# Altium footprint library Misc.PCBLIB: 58 footprints (part 1 of 4)
Each footprint in its own frame and in the unit in brackets; x right, y up, seen from the top. Pads: shape width x height; smd on the part's side, far side on the other; paste and mask are expansions set on the pad; w line width, h text height; cw(c..) or ccw(c..) is an arc to the next point about the centre after c.
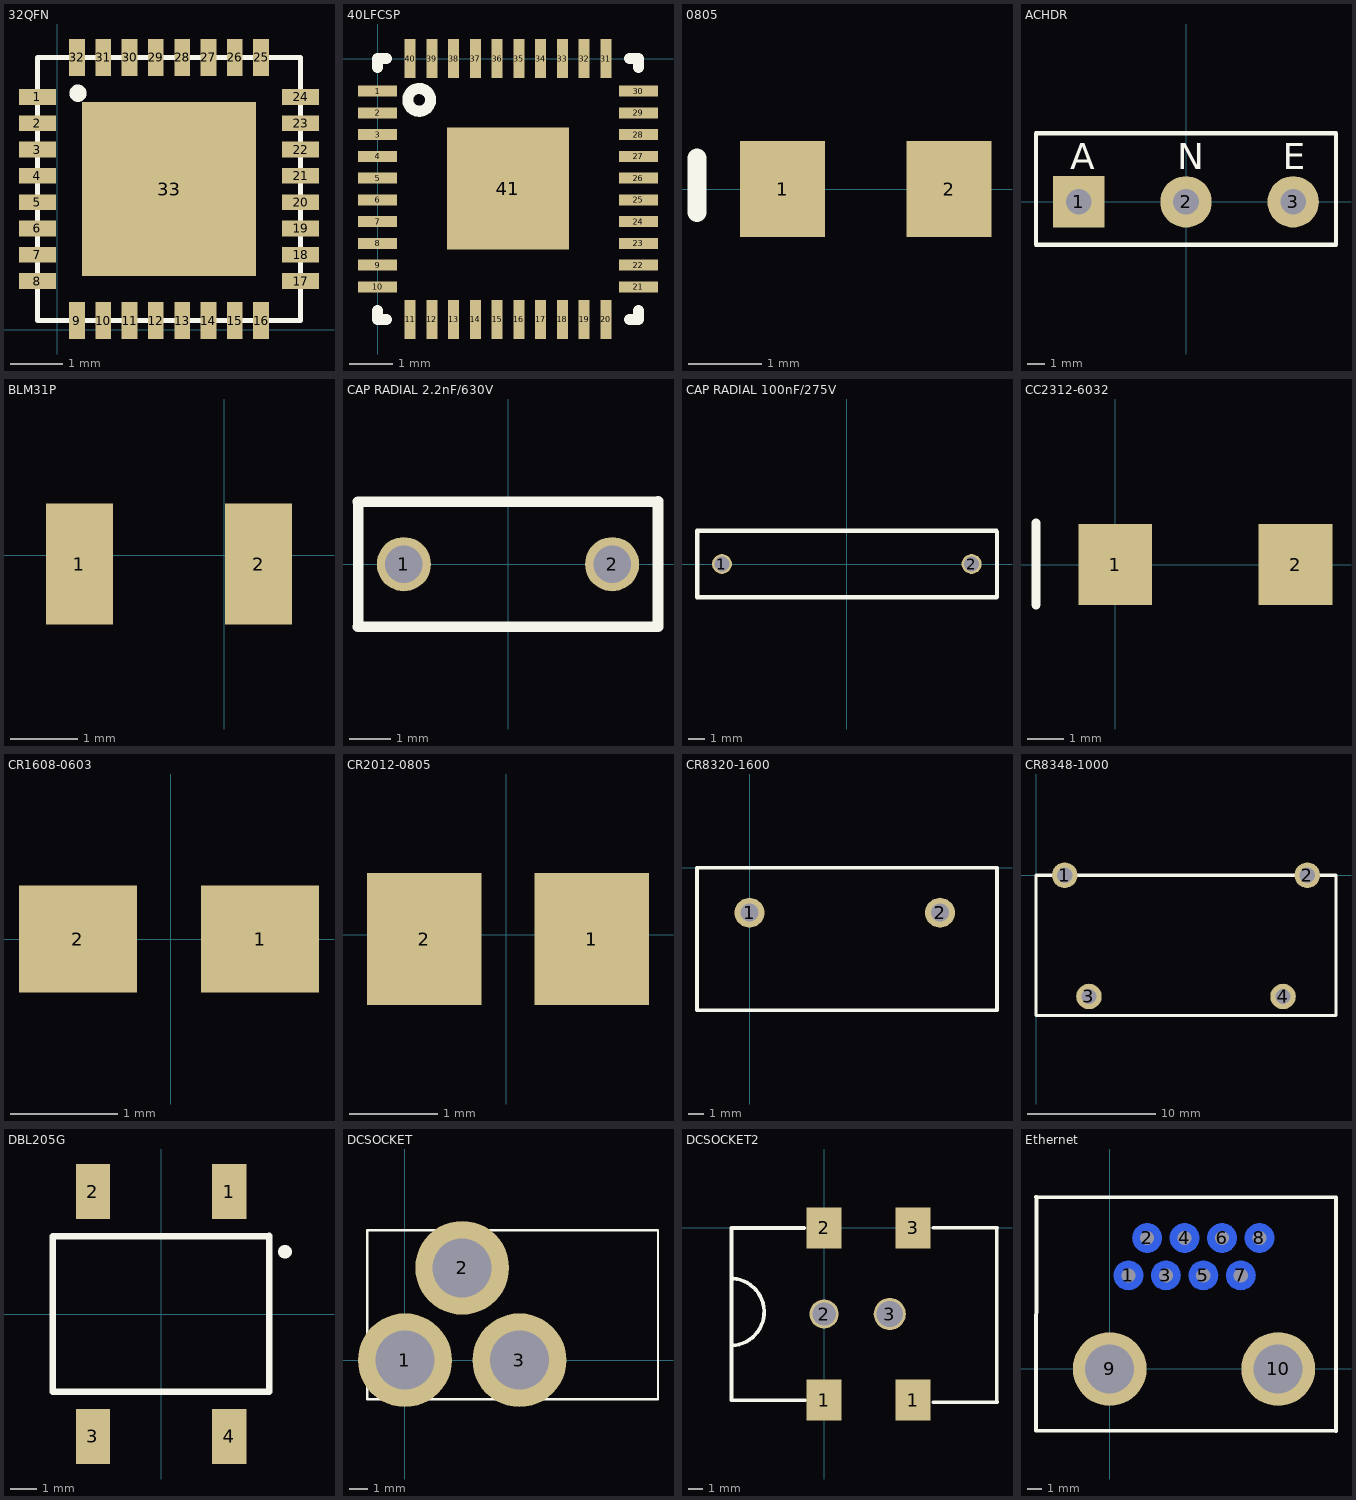
[diagram p0: the footprints below, top view; thin cyan lines are the x and y axes]

## 32QFN [mm]
pads (33):
  rect 0.7x0.3 smd: 1(-0.38,4.42) 2(-0.38,3.92) 3(-0.38,3.42) 4(-0.38,2.92) 5(-0.38,2.42) 6(-0.38,1.92) 7(-0.38,1.42) 8(-0.38,0.92) 17(4.62,0.92) 18(4.62,1.42) 19(4.62,1.92) 20(4.62,2.42) 21(4.62,2.92) 22(4.62,3.42) 23(4.62,3.92) 24(4.62,4.42)
  rect 0.3x0.7 smd: 9(0.37,0.17) 10(0.87,0.17) 11(1.37,0.17) 12(1.87,0.17) 13(2.37,0.17) 14(2.87,0.17) 15(3.37,0.17) 16(3.87,0.17) 25(3.87,5.17) 26(3.37,5.17) 27(2.87,5.17) 28(2.37,5.17) 29(1.87,5.17) 30(1.37,5.17) 31(0.87,5.17) 32(0.37,5.17)
  rect 3.3x3.3 smd: 33(2.12,2.67)
Top Overlay:
  circle w0.254: c0.39,4.49 r0.036
  lines w0.1: -0.38,0.17 -0.38,5.17 4.62,5.17 4.62,0.17 -0.38,0.17

## 40LFCSP [mm]
pads (41):
  rect 0.9x0.25 smd: 1(0,-0.75) 2(0,-1.25) 3(0,-1.75) 4(0,-2.25) 5(0,-2.75) 6(0,-3.25) 7(0,-3.75) 8(0,-4.25) 9(0,-4.75) 10(0,-5.25) 21(6,-5.25) 22(6,-4.75) 23(6,-4.25) 24(6,-3.75) 25(6,-3.25) 26(6,-2.75) 27(6,-2.25) 28(6,-1.75) 29(6,-1.25) 30(6,-0.75)
  rect 0.25x0.9 smd: 11(0.75,-6) 12(1.25,-6) 13(1.75,-6) 14(2.25,-6) 15(2.75,-6) 16(3.25,-6) 17(3.75,-6) 18(4.25,-6) 19(4.75,-6) 20(5.25,-6) 31(5.25,0) 32(4.75,0) 33(4.25,0) 34(3.75,0) 35(3.25,0) 36(2.75,0) 37(2.25,0) 38(1.75,0) 39(1.25,0) 40(0.75,0)
  rect 2.8x2.8 smd: 41(3,-2.99)
Top Overlay:
  circle w0.254: c0.958,-0.95 r0.262
  lines w0.254: 0,-5.8 0,-6 0.2,-6 ; 0,-0.2 0,0 0.2,0 ; 5.8,-6 6,-6 6,-5.8 ; 5.8,0 6,0 6,-0.2

## 0805 [mm]
pads (2):
  rect 1.15x1.3 smd: 1(-4.75,0) 2(-2.49,0)
Top Overlay:
  lines w0.254: -5.91,-0.32 -5.91,0.42

## ACHDR [mm] "1.5mm holes for AC lines"
pads (3):
  rect 3x3 hole 1.5: 1(-6.25,0)
  round 3 hole 1.5: 2(0,0) 3(6.25,0)
Top Overlay:
  lines w0.254: -8.75,-2.5 8.75,-2.5 8.75,4 -8.75,4 -8.75,-2.5
  text "N" at -0.504,1.9 h1.52
  text "E" at 5.646,1.9 h1.52
  text "A" at -6.75,1.9 h1.52

## BLM31P [mm]
pads (2):
  rect 1x1.8 smd: 1(-2.159,-0.127) 2(0.508,-0.127)

## CAP RADIAL 2.2nF/630V [mm]
pads (2):
  round 1.3 hole 0.9 mask+0: 1(-2.5,0) 2(2.5,0)
Top Overlay:
  lines w0.254: -3.6,-1.5 3.6,-1.5 ; -3.6,1.5 3.6,1.5 ; -3.595,-1.505 -3.595,1.5 ; 3.6,-1.49 3.6,1.515

## CAP RADIAL 100nF/275V [mm]
pads (2):
  round 1.2 hole 0.9 mask+0: 1(-7.5,0) 2(7.5,0)
Top Overlay:
  lines w0.254: -9,-2 9,-2 ; -9,2 9,2 ; -8.98,-1.945 -8.98,1.965 ; 9.025,-1.98 9.025,1.93

## CC2312-6032 [mm]
pads (2):
  rect 2x2.2 smd: 1(0,0) 2(4.9,0)
Top Overlay:
  lines w0.254: -2.15,-1.09 -2.15,1.13

## CR1608-0603 [mm]
pads (2):
  rect 1.1x1 smd: 1(0.835,0.002) 2(-0.865,0.002)

## CR2012-0805 [mm]
pads (2):
  rect 1.3x1.5 smd: 1(0.971,-0.046) 2(-0.929,-0.046)

## CR8320-1600 [mm] "Current Transformer"
pads (2):
  round 2 hole 1.2: 1(0,-3) 2(12.7,-3)
Top Overlay:
  lines w0.254: -3.5,-9.5 16.5,-9.5 16.5,0 -3.5,0 -3.5,-9.5

## CR8348-1000 [mm] "Current Transformer"
pads (4):
  round 2 hole 1.2: 1(2.25,0) 2(21.25,0) 3(4.15,-9.5) 4(19.35,-9.5)
Top Overlay:
  lines w0.254: 0,-11 0,0 23.5,0 23.5,-11 0,-11

## DBL205G [mm]
pads (4):
  rect 1.3x2.1 smd mask+0: 1(2.6,4.67) 2(-2.6,4.67) 3(-2.6,-4.67) 4(2.6,-4.67)
Top Overlay:
  lines w0.254: 4.114,-2.965 -4.126,-2.97 -4.13,2.97 4.125,2.975 4.129,-2.965
  lines w0.5: 4.705,2.375 4.735,2.375

## DCSOCKET [mm]
pads (3):
  round 5.08 hole 3.2: 1(0,0) 2(3.1,5) 3(6.2,0)
Top Overlay:
  lines w0.127: -2.048,-2.112 -2.048,7.032 13.7,7.032 13.7,-2.112 -2.048,-2.112

## DCSOCKET2 [mm]
pads (6):
  rect 2.4x2.8 smd: 1(0,-11.8) 1(6.1,-11.8) 2(0,0) 3(6.1,0)
  round 2 hole 1.6: 2(0,-5.9)
  round 2.2 hole 1.8: 3(4.5,-5.9)
Top Overlay:
  lines w0.254: -6.35,-0.01 -1.35,-0.01 ; -6.34,-11.81 -6.34,-0.01 ; -6.32,-8.059 ccw(c-6.4,-5.76) -6.237,-3.466 ; -6.3,-11.81 -1.3,-11.81 ; 7.47,0 11.84,0 ; 7.49,-11.94 11.84,-11.92 ; 11.83,-11.81 11.83,-0.01

## Ethernet [mm]
pads (10):
  round 2 on Bottom hole 0.96: 1(1.27,6.35) 2(2.54,8.89) 3(3.81,6.35) 4(5.08,8.89) 5(6.35,6.35) 6(7.62,8.89) 7(8.89,6.35) 8(10.16,8.89)
  round 5 hole 3.32: 9(0,0) 10(11.43,0)
Top Overlay:
  lines w0.254: -5,11.67 15.35,11.65 15.35,-4.21 -5,-4.19 -4.97,11.67